# EAGLE library part ATSAMD21E18A-AF (library SamacSys_Parts)
MICROCHIP - ATSAMD21E18A-AF - MCU, 32BIT, CORTEX-M0+, 48MHZ, TQFP-32 Source: Datasheet <https://datasheet.datasheetarchive.com/originals/distributors/DKDS41/DSANUWW0026743.pdf>
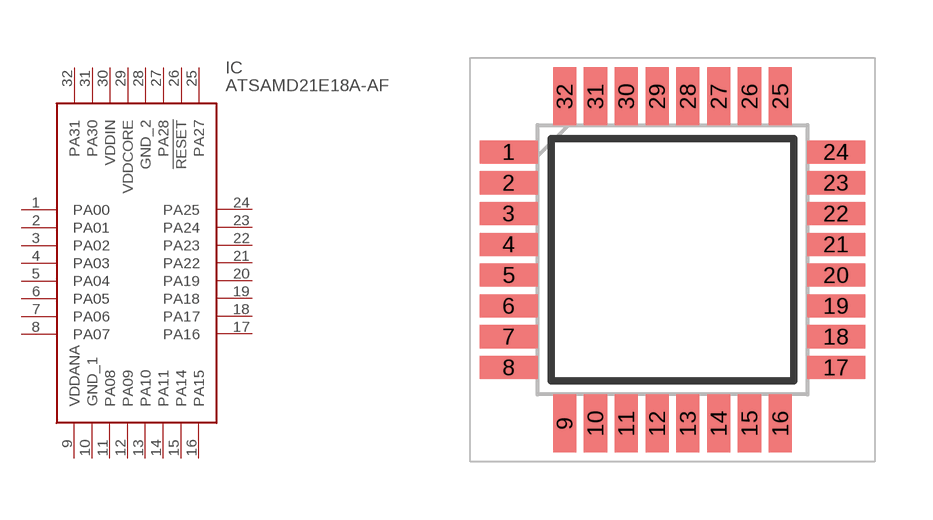
[diagram p4: symbol with the pads of QFP80P900X900X120-32N; footprint QFP80P900X900X120-32N]

Designator prefix IC

## ATSAMD21E18A-AF (DESCRIPTION: MICROCHIP - ATSAMD21E18A-AF - MCU, 32BIT, CORTEX-M0+, 48MHZ, TQFP-32; HEIGHT: 1.2mm; MANUFACTURER_NAME: Microchip; MANUFACTURER_PART_NUMBER: ATSAMD21E18A-AF; MOUSER_PART_NUMBER: 556-ATSAMD21E18A-AF; MOUSER_PRICE-STOCK: https://www.mouser.co.uk/ProductDetail/Microchip-Technology-Atmel/ATSAMD21E18A-AF?qs=9KdFJXLqUo9iFILbVtJCPQ%3D%3D)  [QFP80P900X900X120-32N]
1  PA00
2  PA01
3  PA02
4  PA03
5  PA04
6  PA05
7  PA06
8  PA07
9  VDDANA
10  GND_1
11  PA08
12  PA09
13  PA10
14  PA11
15  PA14
16  PA15
17  PA16
18  PA17
19  PA18
20  PA19
21  PA22
22  PA23
23  PA24
24  PA25
25  PA27
26  !RESET
27  PA28
28  GND_2
29  VDDCORE
30  VDDIN
31  PA30
32  PA31

## Footprint QFP80P900X900X120-32N (pad centres in mm)
ATSAMD21E18A-AF
smd 1.5 x 0.6: 1 -4.25,2.8; 2 -4.25,2; 3 -4.25,1.2; 4 -4.25,0.4; 5 -4.25,-0.4; 6 -4.25,-1.2; 7 -4.25,-2; 8 -4.25,-2.8; 17 4.25,-2.8; 18 4.25,-2; 19 4.25,-1.2; 20 4.25,-0.4; 21 4.25,0.4; 22 4.25,1.2; 23 4.25,2; 24 4.25,2.8
smd 0.6 x 1.5: 9 -2.8,-4.25; 10 -2,-4.25; 11 -1.2,-4.25; 12 -0.4,-4.25; 13 0.4,-4.25; 14 1.2,-4.25; 15 2,-4.25; 16 2.8,-4.25; 25 2.8,4.25; 26 2,4.25; 27 1.2,4.25; 28 0.4,4.25; 29 -0.4,4.25; 30 -1.2,4.25; 31 -2,4.25; 32 -2.8,4.25